# Altium integrated library 06035J0R2PBSTR.IntLib: 1 symbol
Pins are listed as number, name and electrical type; pins without a type are passive.

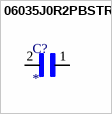
[diagram p0: symbol 06035J0R2PBSTR]

## 06035J0R2PBSTR
designator C?
CAP THIN FILM 0.2PF 50V 0603; MP: 06035J0R2PBSTR; Package: None; Price: None; Value: *; Availability: Unavailable
footprint CAPC1608X90
pins: 1, 2